# Altium schematic symbol library ti-regulator.SchLib: 21 symbols
Pins are listed as number, name and electrical type; pins without a type are passive.

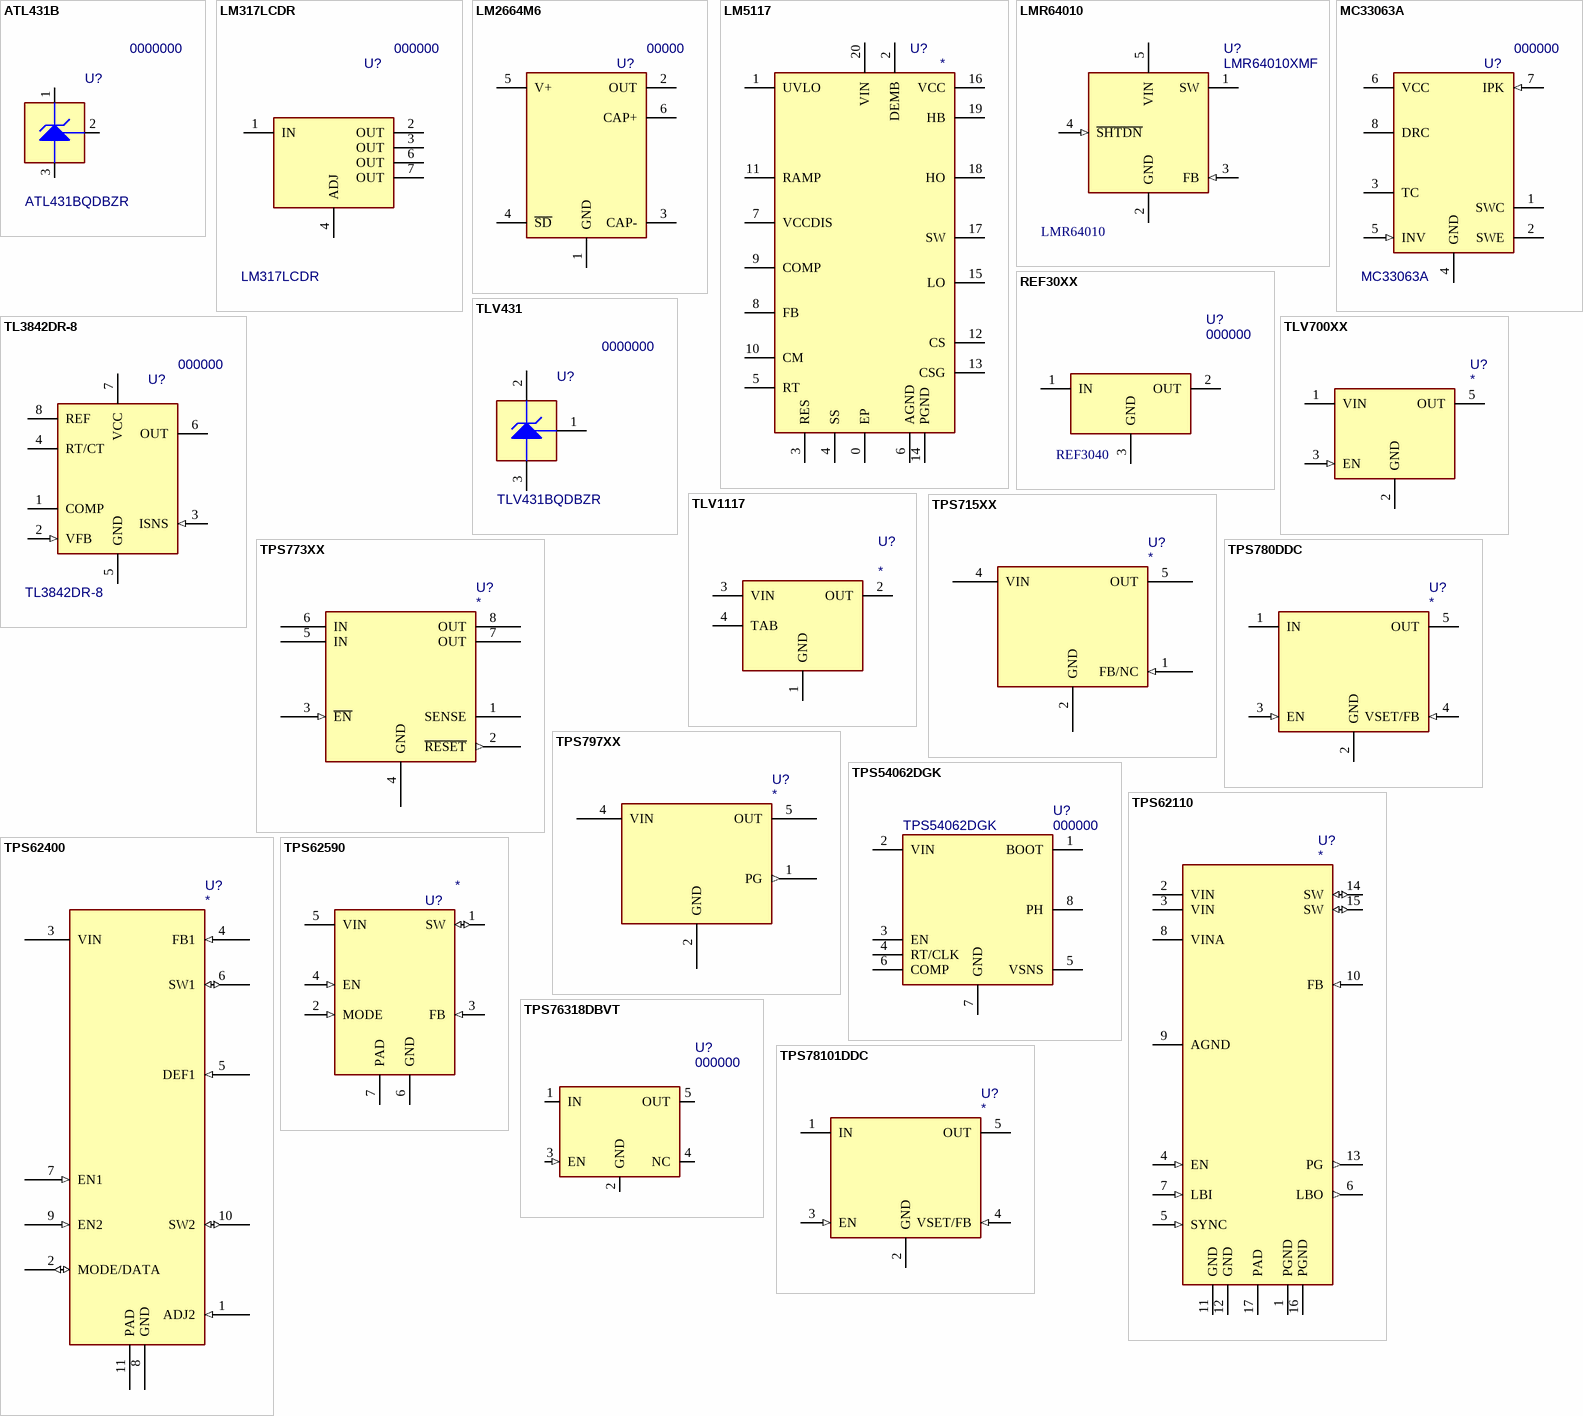
[diagram p0: symbols ATL431B to TPS78101DDC]

## ATL431B
designator U?, comment 0000000  value ATL431BQDBZR
2.5-V Low Iq Adjustable Precision Shunt Regulator; MF: TI; PN: 0000000; ExtraInfo: *; Package: SOT23; MF PN: ATL431BQDBZR
footprint DBZ (R-PDS0-G3) M (SOT23, 3-Leads, Body 3.0x2.8mm (max), Pitch 0.95mm, Medium Density)
pins: 1 CATHODE (power), 2 REF, 3 ANODE (power)

## LM317LCDR
designator U?, comment 000000  value LM317LCDR
3-Terminal Adjustable Regulator; PN: 000000; Package: 8-SOIC; ExtraInfo: *
footprint D (R-PDSO-G8) (Plastic Small Outline 8)
pins: 1 IN (power), 2 OUT (power), 3 OUT (power), 4 ADJ, 6 OUT (power), 7 OUT (power)

## LM2664M6
designator U?, comment 00000
Switched Capacitor Voltage Converter; Value: LM2664M6/NOPB; PN: 00000; Package: SOT23-6; ExtraInfo: *
footprint DVB (R-PDSO-G6) (SOT23, 6-Leads, Body 3.0x3.0mm (max), Pitch 0.95mm, IPC Medium Density)
pins: 1 GND (power), 2 OUT, 3 CAP-, 4 ~{SD}, 5 V+ (power), 6 CAP+

## LM5117
designator U?
Value: LM5117; PN: *; Package: HTSSOP 20; ExtraInfo: *
simulation model LM5117_TRANS ($)
pins: 0 EP, 1 UVLO, 2 DEMB, 3 RES, 4 SS, 5 RT, 6 AGND (power), 7 VCCDIS, 8 FB, 9 COMP, 10 CM, 11 RAMP, 12 CS, 13 CSG, 14 PGND (power), 15 LO, 16 VCC (power), 17 SW, 18 HO, 19 HB, 20 VIN (power)

## LMR64010
designator U?, comment LMR64010XMF  value LMR64010
2.7V to 14V, 1A Step-Up Regulator; MF: Texas Instruments; MF PN: LMR64010XMF/NOPB; PN: LMR64010XMF; Package: *; ExtraInfo: *; Price: 0.67500; Digi-Key PN: 296-38770-1-ND
footprint DBV (R-PDSO-G5) M (SOT23, 5-Leads, Body 3.0x3.0mm (max), Pitch 0.95mm, IPC Medium Density)
pins: 1 SW (power), 2 GND (power), 3 FB (in), 4 ~{SHTDN} (in), 5 VIN (power)

## MC33063A
designator U?, comment 000000  value MC33063A
Boost/Buck/Inverting Switching Regulator; PN: 000000; Package: 8-SOIC; ExtraInfo: *
footprint D (R-PDSO-G8) (Plastic Small Outline 8)
pins: 1 SWC (oc), 2 SWE (oe), 3 TC, 4 GND (power), 5 INV (in), 6 VCC (power), 7 IPK (in), 8 DRC (oc)

## REF30XX
designator U?, comment 000000  value REF3040
CMOS Voltage Reference, 50ppm/dgC, 50uA; Package: SOT-23; PN: 000000; ExtraInfo: *
footprint DBZ (R-PDS0-G3) (SOT23, 3-Leads, Body 3.0x2.8mm (max), Pitch 0.95mm, IPC High Density)
pins: 1 IN (power), 2 OUT (power), 3 GND (power)

## TL3842DR-8
designator U?, comment 000000  value TL3842DR-8
Boost Switching Regulator; PN: 000000; Package: 8-SOIC; ExtraInfo: *
footprint D (R-PDSO-G8) (Plastic Small Outline 8)
pins: 1 COMP (oe), 2 VFB (in), 3 ISNS (in), 4 RT/CT, 5 GND (power), 6 OUT (oc), 7 VCC (power), 8 REF (oc)

## TLV431
designator U?, comment 0000000  value TLV431BQDBZR
Low-Voltage Adjustable Precision Shunt Regulator; MF: TI; PN: 0000000; ExtraInfo: *; Package: SOT23
footprint DBZ (R-PDS0-G3) (SOT23, 3-Leads, Body 3.0x2.8mm (max), Pitch 0.95mm, IPC High Density)
pins: 1 REF, 2 CATHODE (power), 3 ANODE (power)

## TLV700XX
designator U?
Low-Dropout Regulator 200mA, Low-Iq; Value: TLV700XX; PN: *; Package: SOT23-5; ExtraInfo: *
footprint DDC (R-PDSO-G5) (SOT23, 5-Leads, Body 3.0x3.0mm (max), Pitch 0.95mm, IPC High Density)
pins: 1 VIN (power), 2 GND (power), 3 EN (in), 5 OUT (power)

## TLV1117
designator U?
Low-Dropout Regulator 800mA; Value: TLV1117; ExtraInfo: *; PN: *; Package: SOT223-4
footprint DCY (R-PDSO-G4) (SOT223, 4-Leads, Body 6.7x7.3mm (max), Pitch 2.30mm, IPC Medium Density)
pins: 1 GND (power), 2 OUT (power), 3 VIN (power), 4 TAB (power)

## TPS715XX
designator U?
Value: TPS715XX; Package: *; PN: *; ExtraInfo: *
footprint DCK (R-PDS0-G5) (SOT223, 5-Leads, Body 2.2x2.4mm (max), Pitch 0.65mm, IPC Medium Density)
pins: 1 FB/NC (in), 2 GND (power), 4 VIN (power), 5 OUT (power)

## TPS773XX
designator U?
Low-Dropout Regulator, 250 mA,  Reset Output; Value: TPS773XX; ExtraInfo: *; PN: *; Package: *
footprint DGK (R-PDSO-G8) (8-MSOP)
pins: 1 SENSE, 2 ~{RESET} (out), 3 ~{EN} (in), 4 GND (power), 5 IN (power), 6 IN (power), 7 OUT (power), 8 OUT (power)

## TPS780DDC
designator U?
Value: TPS780DDC; PN: *; Package: *; ExtraInfo: *
footprint DDC (R-PDSO-G5) (SOT23, 5-Leads, Body 3.0x3.0mm (max), Pitch 0.95mm, IPC High Density)
pins: 1 IN (power), 2 GND (power), 3 EN (in), 4 VSET/FB (in), 5 OUT (power)

## TPS797XX
designator U?
PN: *; Value: *; Package: *; ExtraInfo: *
footprint DCK (R-PDS0-G5) (SOT223, 5-Leads, Body 2.2x2.4mm (max), Pitch 0.65mm, IPC Medium Density)
pins: 1 PG (out), 2 GND (power), 4 VIN (power), 5 OUT (power)

## TPS54062DGK
designator U?, comment 000000  value TPS54062DGK
60V, 50mA Synchronous Step-Down Converter; ExtraInfo: *; PN: 000000; Package: MSOP-8
footprint DGK (R-PDSO-G8) (8-MSOP)
pins: 1 BOOT, 2 VIN (power), 3 EN, 4 RT/CLK, 5 VSNS, 6 COMP, 7 GND (power), 8 PH (power)

## TPS62110
designator U?
Value: TPS62110; PN: *; ExtraInfo: *; Package: *
footprint S-PQFP-N16 (QFN, 16-Leads, Body 4.2x4.2mm (max), Pitch 0.65mm, Pitch1 0.65mm, IPC Medium Density)
pins: 1 PGND (power), 2 VIN (power), 3 VIN (power), 4 EN (in), 5 SYNC (in), 6 LBO (out), 7 LBI (in), 8 VINA (power), 9 AGND (power), 10 FB (in), 11 GND (power), 12 GND (power), 13 PG (out), 14 SW (io), 15 SW (io), 16 PGND (power), 17 PAD (power)

## TPS62400
designator U?
ExtraInfo: *; PN: *; Value: *; Package: *
footprint S-PVS0N-N10 (QFN, 10-Leads, Body 3.2x3.2mm (max), Pitch 0.50mm, IPC Medium Density)
pins: 1 ADJ2 (in), 2 MODE/DATA (io), 3 VIN (power), 4 FB1 (in), 5 DEF1 (in), 6 SW1 (io), 7 EN1 (in), 8 GND (power), 9 EN2 (in), 10 SW2 (io), 11 PAD (power)

## TPS62590
designator U?
Value: TPS62590; PN: *; Package: *; ExtraInfo: *
footprint S-PWSON-N6 (QFN, 6-Leads, Body 2.1x2.1mm (max), Pitch 0.65mm, Pitch1 0.65mm, IPC Medium Density)
pins: 1 SW (io), 2 MODE (in), 3 FB (in), 4 EN (in), 5 VIN (power), 6 GND (power), 7 PAD (power)

## TPS76318DBVT
designator U?, comment 000000
Value: TPS76318DBVT; PN: 000000; Package: *; ExtraInfo: *
footprint DBV (R-PDSO-G5) (SOT23, 5-Leads, Body 3.0x3.0mm (max), Pitch 0.95mm, IPC High Density)
pins: 1 IN (power), 2 GND (power), 3 EN (in), 4 NC, 5 OUT (power)

## TPS78101DDC
designator U?
Value: TPS78101DDC; PN: *; Package: *; ExtraInfo: *
footprint DDC (R-PDSO-G5) (SOT23, 5-Leads, Body 3.0x3.0mm (max), Pitch 0.95mm, IPC High Density)
pins: 1 IN (power), 2 GND (power), 3 EN (in), 4 VSET/FB (in), 5 OUT (power)